# EAGLE library part MCP1632-BAE/MS (library ruark2)
Boost, Cuk, Flyback, SEPIC Regulator Positive Output Step-Up, Step-Up/Step-Down DC-DC Controller IC 8-MSOP
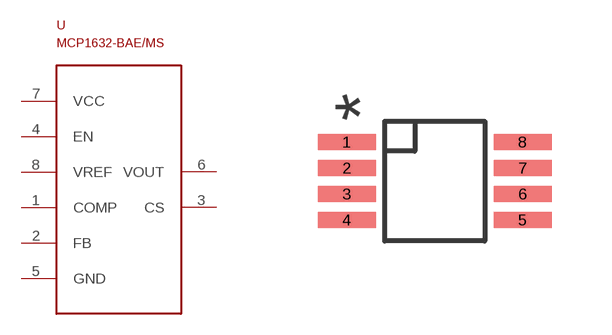
[diagram p39: symbol with the pads of MSOP-8; footprint MSOP-8]

Designator prefix U

## MCP1632-BAE/MS (PARTNO: MCP1632-BAE/MS-ND)  [MSOP-8]
1  COMP
2  FB
3  CS
4  EN
5  GND
6  VOUT
7  VCC
8  VREF

## Footprint MSOP-8 (pad centres in mm)
smd 1.45 x 0.4: 1 -2.2,0.975; 2 -2.2,0.325; 3 -2.2,-0.325; 4 -2.2,-0.975; 5 2.2,-0.975; 6 2.2,-0.325; 7 2.2,0.325; 8 2.2,0.975